# Altium schematic symbol library D 电位器.SCHLIB: 1 symbol
Pins are listed as number, name and electrical type; pins without a type are passive.

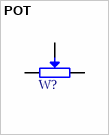
[diagram p0: symbol POT]

## POT
designator W?
电位器
pins: 1, 2, 3